# EAGLE library part MAX16826 (library _RoweTel)
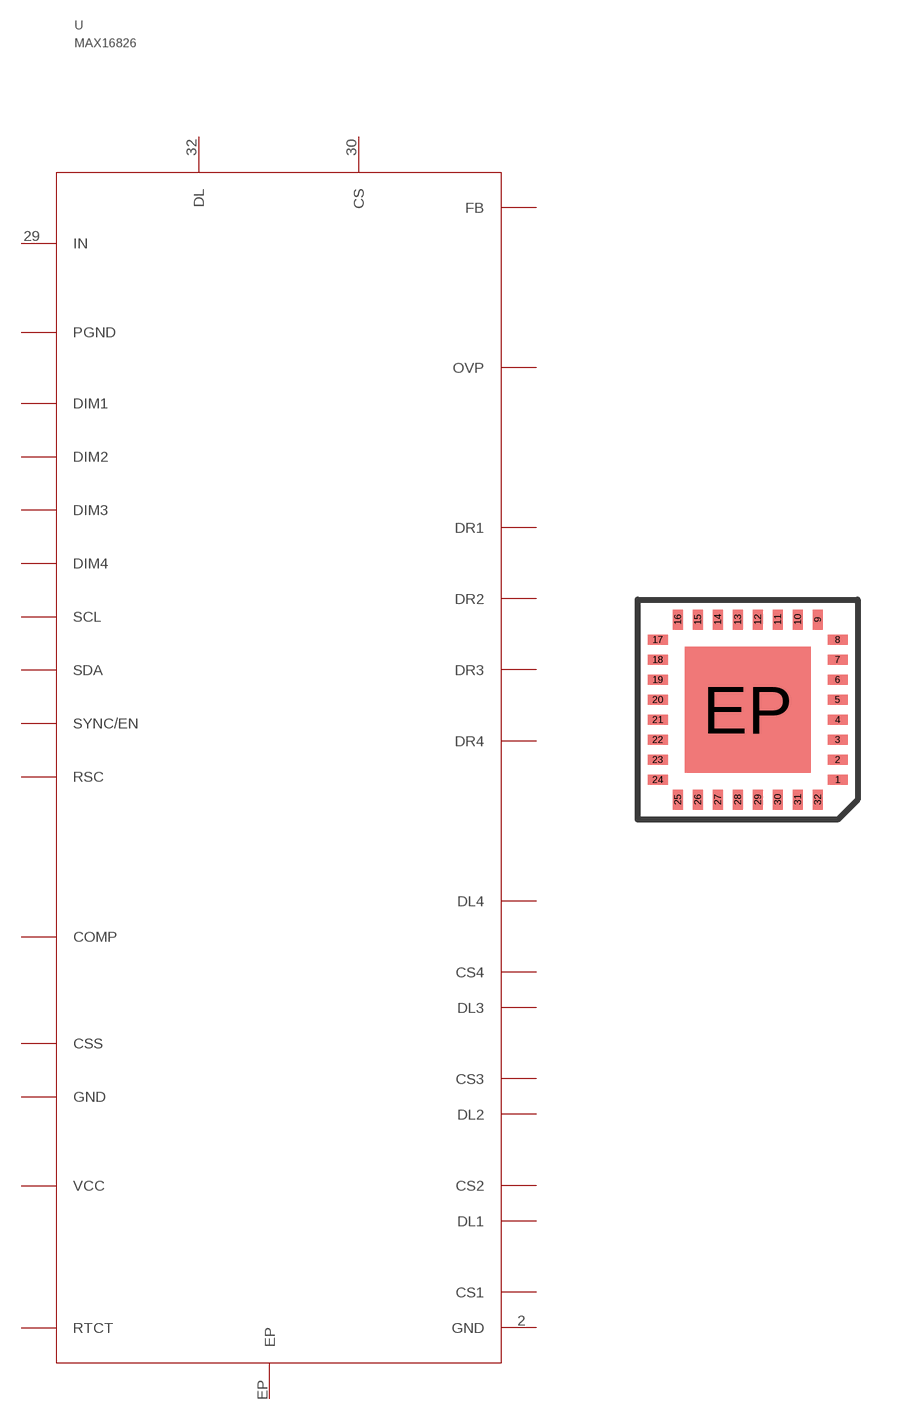
[diagram p40: symbol with the pads of TQFN-5X5-32; footprint TQFN-5X5-32]

Designator prefix U

## MAX16826  [TQFN-5X5-32]
1  PGND
2  GND
3  GND
4  RTCT
5  SYNC/EN
6  CSS
7  COMP
8  FB
9  OVP
10  RSC
11  SDA
12  SCL
13  DIM1
14  DIM2
15  DIM3
16  DIM4
17  CS1
18  DL1
19  DR1
20  CS2
21  DL2
22  DR2
23  CS3
24  DL3
25  DR3
26  CS4
27  DL4
28  DR4
29  IN
30  CS
31  VCC
32  DL
EP  EP

## Footprint TQFN-5X5-32 (pad centres in mm)
smd 0.5 x 0.25: 1 2.25,-1.75; 2 2.25,-1.25; 3 2.25,-0.75; 4 2.25,-0.25; 5 2.25,0.25; 6 2.25,0.75; 7 2.25,1.25; 8 2.25,1.75; 17 -2.25,1.75; 18 -2.25,1.25; 19 -2.25,0.75; 20 -2.25,0.25; 21 -2.25,-0.25; 22 -2.25,-0.75; 23 -2.25,-1.25; 24 -2.25,-1.75
smd 0.25 x 0.5: 9 1.75,2.25; 10 1.25,2.25; 11 0.75,2.25; 12 0.25,2.25; 13 -0.25,2.25; 14 -0.75,2.25; 15 -1.25,2.25; 16 -1.75,2.25; 25 -1.75,-2.25; 26 -1.25,-2.25; 27 -0.75,-2.25; 28 -0.25,-2.25; 29 0.25,-2.25; 30 0.75,-2.25; 31 1.25,-2.25; 32 1.75,-2.25
smd 3.15 x 3.15: EP 0,0